# Altium footprint library FLOOD_DATN.PcbLib: 12 footprints
Each footprint in its own frame and in the unit in brackets; x right, y up, seen from the top. Pads: shape width x height; smd on the part's side, far side on the other; paste and mask are expansions set on the pad; w line width, h text height; cw(c..) or ccw(c..) is an arc to the next point about the centre after c.
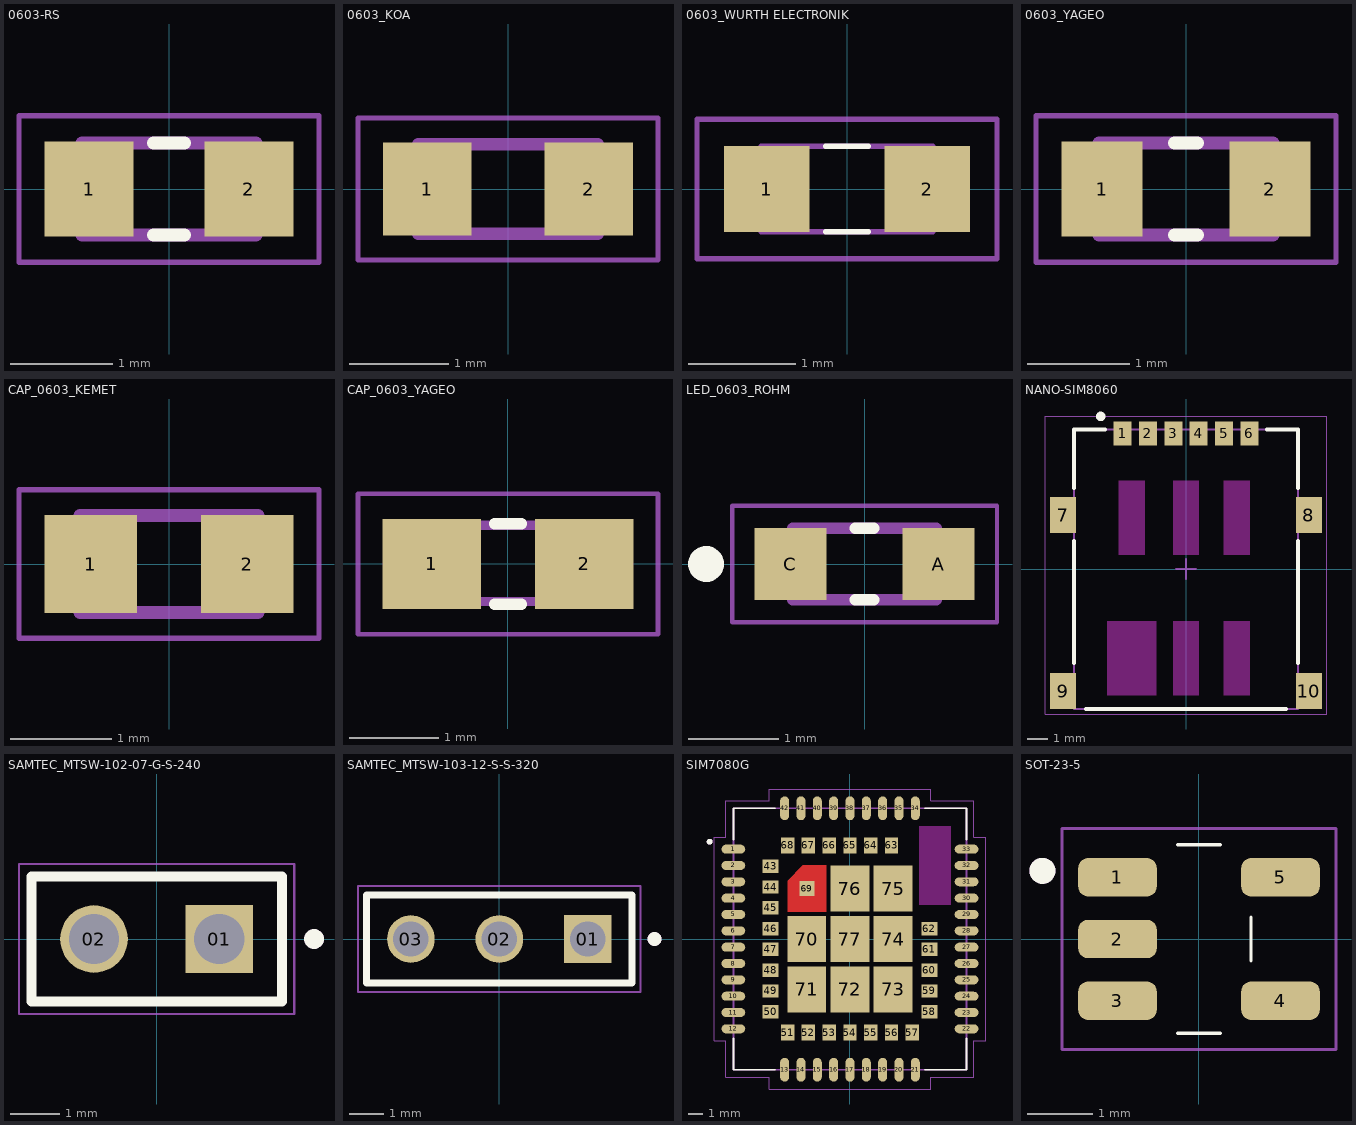
[diagram p0: the footprints below, top view; thin cyan lines are the x and y axes]

## 0603-RS [mm]
pads (2):
  rect 0.87x0.93 smd: 1(-0.78,0) 2(0.78,0)
Top Overlay:
  lines w0.127: -0.15,-0.45 0.15,-0.45 ; -0.15,0.45 0.15,0.45
Mechanical 1:
  lines w0.127: -0.85,-0.45 -0.85,0.45 0.85,0.45 0.85,-0.45 -0.85,-0.45
Mechanical 13:
  lines w0.127: -0.85,-0.45 -0.85,0.45 0.85,0.45 0.85,-0.45 -0.85,-0.45
Mechanical 15:
  lines w0.05: -1.465,-0.715 -1.465,0.715 1.465,0.715 1.465,-0.715 -1.465,-0.715
Mechanical 29:
  lines w0.05: -1.465,-0.715 -1.465,0.715 1.465,0.715 1.465,-0.715 -1.465,-0.715
  text "'.Designator'" at -1.016,-0.127 h0.4
3D body "SFR03EZPF4701.step": height 0.55, standoff 0, extent -0.8,-0.4 0.8,0.4

## 0603_KOA [mm]
pads (2):
  rect 0.89x0.93 smd: 1(-0.814,0) 2(0.814,0)
Mechanical 1:
  lines w0.127: -0.9,-0.45 -0.9,0.45 0.9,0.45 0.9,-0.45 -0.9,-0.45
Mechanical 13:
  lines w0.127: -0.9,-0.45 -0.9,0.45 0.9,0.45 0.9,-0.45 -0.9,-0.45
Mechanical 15:
  lines w0.05: -1.508,-0.715 -1.508,0.715 1.508,0.715 1.508,-0.715 -1.508,-0.715
Mechanical 29:
  lines w0.05: -1.508,-0.715 -1.508,0.715 1.508,0.715 1.508,-0.715 -1.508,-0.715
  text "'.Designator'" at -0.781,-0.117 h0.3
3D body "step_temp.STEP": height 0.55, standoff 0, extent -0.8,-0.4 0.8,0.4

## 0603_WURTH ELECTRONIK [mm]
pads (2):
  rect 0.8x0.8 smd: 1(-0.75,0) 2(0.75,0)
Top Overlay:
  lines w0.05: -0.2,-0.4 0.2,-0.4 ; -0.2,0.4 0.2,0.4
Mechanical 1:
  lines w0.05: -0.8,-0.4 0.8,-0.4 0.8,0.4 -0.8,0.4 -0.8,-0.4
Mechanical 15:
  lines w0.05: -1.4,-0.65 1.4,-0.65 1.4,0.65 -1.4,0.65 -1.4,-0.65
Mechanical 29:
  lines w0.05: -1.4,-0.65 1.4,-0.65 1.4,0.65 -1.4,0.65 -1.4,-0.65
  text "'.Designator'" at -1.143,-0.127 h0.5
3D body "885012206071.STEP": height 0.8, standoff 0, extent -0.8,-0.4 0.8,0.4

## 0603_YAGEO [mm]
pads (2):
  rect 0.79x0.93 smd: 1(-0.82,0) 2(0.82,0)
Top Overlay:
  lines w0.127: -0.11,-0.45 0.11,-0.45 ; -0.11,0.45 0.11,0.45
Mechanical 1:
  lines w0.127: -0.85,-0.45 -0.85,0.45 0.85,0.45 0.85,-0.45 -0.85,-0.45
Mechanical 13:
  lines w0.127: -0.85,-0.45 -0.85,0.45 0.85,0.45 0.85,-0.45 -0.85,-0.45
Mechanical 15:
  lines w0.05: -1.465,-0.715 -1.465,0.715 1.465,0.715 1.465,-0.715 -1.465,-0.715
Mechanical 29:
  lines w0.05: -1.465,-0.715 -1.465,0.715 1.465,0.715 1.465,-0.715 -1.465,-0.715
  text "'.Designator'" at -1.143,-0.381 h0.51
3D body "step_temp.STEP": height 0.55, standoff 0, extent -0.8,-0.4 0.8,0.4

## CAP_0603_KEMET [mm]
pads (2):
  rect 0.92x0.97 smd: 1(-0.775,0) 2(0.775,0)
Mechanical 1:
  lines w0.127: -0.88,-0.48 0.88,-0.48 0.88,0.48 -0.88,0.48 -0.88,-0.48
Mechanical 13:
  lines w0.127: -0.88,-0.48 0.88,-0.48 0.88,0.48 -0.88,0.48 -0.88,-0.48
Mechanical 15:
  lines w0.05: -1.485,-0.735 1.485,-0.735 1.485,0.735 -1.485,0.735 -1.485,-0.735
Mechanical 29:
  lines w0.05: -1.485,-0.735 1.485,-0.735 1.485,0.735 -1.485,0.735 -1.485,-0.735
  text "'.Designator'" at -1.194,-0.201 h0.51
3D body "C0603C103M4REC7411.STEP": height 0.87, standoff 0, extent -0.8,-0.4 0.8,0.4

## CAP_0603_YAGEO [mm]
pads (2):
  rect 1.1x1 smd: 1(-0.85,0) 2(0.85,0)
Top Overlay:
  lines w0.127: -0.15,-0.45 0.15,-0.45 ; -0.15,0.45 0.15,0.45
Mechanical 1:
  region: 0.83,-0.471 0.331,-0.471 0.331,0.48 0.83,0.48
  region: -0.338,-0.47 -0.839,-0.47 -0.839,0.48 -0.338,0.48
  lines w0.102: -0.356,-0.419 0.356,-0.419 ; -0.356,0.432 0.356,0.432
Mechanical 13:
  region: 0.83,-0.471 0.331,-0.471 0.331,0.48 0.83,0.48
  region: -0.338,-0.47 -0.839,-0.47 -0.839,0.48 -0.338,0.48
  lines w0.102: -0.356,-0.419 0.356,-0.419 ; -0.356,0.432 0.356,0.432
Mechanical 15:
  lines w0.051: -1.673,-0.783 -1.673,0.783 1.673,0.783 1.673,-0.783 -1.673,-0.783
Mechanical 29:
  lines w0.051: -1.673,-0.783 -1.673,0.783 1.673,0.783 1.673,-0.783 -1.673,-0.783
  text "'.Designator'" at -1.143,-0.381 h0.51
3D body "CC0603JRX7R7BB104.STEP": height 0.8, standoff 0, extent -0.819,-0.451 0.781,0.449

## LED_0603_ROHM [mm]
pads (2):
  rect 0.8x0.8 smd: A(0.825,0) C(-0.825,0)
Top Overlay:
  circle w0.2: c-1.765,0 r0.1
  lines w0.127: -0.105,-0.4 0.105,-0.4 ; -0.105,0.4 0.105,0.4
Mechanical 1:
  lines w0.127: -0.8,-0.4 -0.8,0.4 0.8,0.4 0.8,-0.4 -0.8,-0.4
Mechanical 13:
  lines w0.127: -0.8,-0.4 -0.8,0.4 0.8,0.4 0.8,-0.4 -0.8,-0.4
Mechanical 15:
  lines w0.05: -1.475,-0.65 -1.475,0.65 1.475,0.65 1.475,-0.65 -1.475,-0.65
Mechanical 29:
  lines w0.05: -1.475,-0.65 -1.475,0.65 1.475,0.65 1.475,-0.65 -1.475,-0.65
  text "'.Designator'" at -0.762,0 h0.3
3D body "step_temp.STEP": height 0.55, standoff 0, extent -0.8,-0.4 0.8,0.4

## NANO-SIM8060 [mm]
pads (10):
  rect 0.9x1.2 smd: 1(-3.175,6.8) 2(-1.905,6.8) 3(-0.635,6.8) 4(0.635,6.8) 5(1.905,6.8) 6(3.175,6.8)
  rect 1.3x1.8 smd: 7(-6.15,2.7) 8(6.15,2.7) 9(-6.15,-6.1) 10(6.15,-6.1)
Top Overlay:
  circle w0.24: c-4.267,7.645 r0.12
  lines w0.2: -5.6,-4.699 -5.6,1.397 ; -5.6,4.064 -5.6,7 -4.064,7 ; -5,-7 5,-7 ; 4.064,7 5.6,7 5.6,4.064 ; 5.6,-4.699 5.6,1.397
Keep-Out Layer:
  region: 3.19,-6.3 1.89,-6.3 1.89,-2.6 3.19,-2.6
  region: 0.65,-6.3 -0.65,-6.3 -0.65,-2.6 0.65,-2.6
  region: -1.49,-6.3 -3.93,-6.3 -3.93,-2.6 -1.49,-2.6
  region: 3.19,0.72 1.89,0.72 1.89,4.42 3.19,4.42
  region: 0.65,0.72 -0.65,0.72 -0.65,4.42 0.65,4.42
  region: -2.06,0.72 -3.36,0.72 -3.36,4.42 -2.06,4.42
  region: 3.19,-6.3 1.89,-6.3 1.89,-2.6 3.19,-2.6
  region: 0.65,-6.3 -0.65,-6.3 -0.65,-2.6 0.65,-2.6
  region: -1.49,-6.3 -3.93,-6.3 -3.93,-2.6 -1.49,-2.6
  region: 3.19,0.72 1.89,0.72 1.89,4.42 3.19,4.42
  region: 0.65,0.72 -0.65,0.72 -0.65,4.42 0.65,4.42
  region: -2.06,0.72 -3.36,0.72 -3.36,4.42 -2.06,4.42
Mechanical 1:
  lines w0.1: -5.6,-7 -5.6,7 5.6,7 5.6,-7 -5.6,-7
Mechanical 13:
  lines w0.1: -5.6,-7 -5.6,7 5.6,7 5.6,-7 -5.6,-7
Mechanical 15:
  lines w0.05: -7.05,-7.25 -7.05,7.65 7.05,7.65 7.05,-7.25 -7.05,-7.25
  lines w0.1: -0.5,0 0.5,0 ; 0,-0.5 0,0.5
Mechanical 29:
  lines w0.05: -7.05,-7.25 -7.05,7.65 7.05,7.65 7.05,-7.25 -7.05,-7.25
  text "'.Designator'" at -3.048,-0.508 h1.52
3D body "SIM8060-6-1-14-00-A.step": height 1.4, standoff -0.03, extent -6.223,-7.05 6.177,7.05

## SAMTEC_MTSW-102-07-G-S-240 [mm]
pads (2):
  rect 1.37x1.37 / inner round 1.37 / far side rect 1.37x1.37 hole 1.02: 01(1.27,0)
  round 1.37 hole 1.02: 02(-1.27,0)
Top Overlay:
  circle w0.2: c3.19,0 r0.1
  lines w0.2: -2.54,-1.27 -2.54,1.27 2.54,1.27 2.54,-1.27 -2.54,-1.27
Mechanical 1:
  lines w0.1: -2.54,-1.27 -2.54,1.27 ; -2.54,-1.27 2.54,-1.27 ; -2.54,-1.27 -2.54,1.27 ; -2.54,1.27 2.54,1.27 ; -2.54,1.27 2.54,1.27 ; 2.54,-1.27 2.54,1.27 ; 2.54,-1.27 2.54,1.27
Mechanical 13:
  circle w0.2: c3.19,0 r0.1
  lines w0.1: -2.54,-1.27 -2.54,1.27 ; -2.54,-1.27 2.54,-1.27 ; -2.54,-1.27 -2.54,1.27 ; -2.54,1.27 2.54,1.27 ; -2.54,1.27 2.54,1.27 ; 2.54,-1.27 2.54,1.27 ; 2.54,-1.27 2.54,1.27
Mechanical 15:
  lines w0.05: -2.79,-1.52 -2.79,1.52 2.79,1.52 2.79,-1.52 -2.79,-1.52
Mechanical 29:
  lines w0.05: -2.79,-1.52 -2.79,1.52 2.79,1.52 2.79,-1.52 -2.79,-1.52
  text "'.Designator'" at -1.821,-0.164 h0.7
3D body "MTSW-102-07-G-S-240.stp": height 8.64, standoff -2.29, extent -2.54,-1.27 2.54,1.27

## SAMTEC_MTSW-103-12-S-S-320 [mm]
pads (3):
  rect 1.37x1.37 / inner round 1.37 / far side rect 1.37x1.37 hole 1.02: 01(2.54,0)
  round 1.37 hole 1.02: 02(0,0) 03(-2.54,0)
Top Overlay:
  circle w0.2: c4.46,0 r0.1
  lines w0.2: -3.81,-1.27 3.81,-1.27 3.81,1.27 -3.81,1.27 -3.81,-1.27
Mechanical 1:
  lines w0.1: -3.81,-1.27 -3.81,1.27 ; -3.81,-1.27 3.81,-1.27 ; -3.81,-1.27 -3.81,1.27 ; -3.81,1.27 3.81,1.27 ; -3.81,1.27 3.81,1.27 ; 3.81,-1.27 3.81,1.27 ; 3.81,-1.27 3.81,1.27
Mechanical 13:
  circle w0.2: c4.46,0 r0.1
  lines w0.1: -3.81,-1.27 -3.81,1.27 ; -3.81,-1.27 3.81,-1.27 ; -3.81,-1.27 -3.81,1.27 ; -3.81,1.27 3.81,1.27 ; -3.81,1.27 3.81,1.27 ; 3.81,-1.27 3.81,1.27 ; 3.81,-1.27 3.81,1.27
Mechanical 15:
  lines w0.05: -4.06,-1.52 4.06,-1.52 4.06,1.52 -4.06,1.52 -4.06,-1.52
Mechanical 29:
  lines w0.05: -4.06,-1.52 4.06,-1.52 4.06,1.52 -4.06,1.52 -4.06,-1.52
  text "'.Designator'" at -2.921,-0.635 h1.3
3D body "MTSW-103-12-S-S-320.stp": height 10.67, standoff -15.49, extent -3.81,-1.27 3.81,1.27

## SIM7080G [mm]
height 2.6
pads (77):
  oval 1.6x0.6 smd paste-2: 1(-7.85,6.05) 2(-7.85,4.95) 3(-7.85,3.85) 4(-7.85,2.75) 5(-7.85,1.65) 6(-7.85,0.55) 7(-7.85,-0.55) 8(-7.85,-1.65) 9(-7.85,-2.75) 10(-7.85,-3.85) 11(-7.85,-4.95) 12(-7.85,-6.05) 22(7.85,-6.05) 23(7.85,-4.95) 24(7.85,-3.85) 25(7.85,-2.75) 26(7.85,-1.65) 27(7.85,-0.55) 28(7.85,0.55) 29(7.85,1.65) 30(7.85,2.75) 31(7.85,3.85) 32(7.85,4.95) 33(7.85,6.05)
  oval 0.6x1.6 smd paste-2: 13(-4.4,-8.8) 14(-3.3,-8.8) 15(-2.2,-8.8) 16(-1.1,-8.8) 17(0,-8.8) 18(1.1,-8.8) 19(2.2,-8.8) 20(3.3,-8.8) 21(4.4,-8.8) 34(4.4,8.8) 35(3.3,8.8) 36(2.2,8.8) 37(1.1,8.8) 38(0,8.8) 39(-1.1,8.8) 40(-2.2,8.8) 41(-3.3,8.8) 42(-4.4,8.8)
  rect 1.1x0.9 smd paste-2: 43(-5.35,4.9) 44(-5.35,3.5) 45(-5.35,2.1) 46(-5.35,0.7) 47(-5.35,-0.7) 48(-5.35,-2.1) 49(-5.35,-3.5) 50(-5.35,-4.9) 58(5.35,-4.9) 59(5.35,-3.5) 60(5.35,-2.1) 61(5.35,-0.7) 62(5.35,0.7)
  rect 0.9x1.1 smd paste-2: 51(-4.2,-6.3) 52(-2.8,-6.3) 53(-1.4,-6.3) 54(0,-6.3) 55(1.4,-6.3) 56(2.8,-6.3) 57(4.2,-6.3) 63(2.8,6.3) 64(1.4,6.3) 65(0,6.3) 66(-1.4,6.3) 67(-2.8,6.3) 68(-4.2,6.3)
  rect 1x1 smd paste-1 mask+0: 69(-2.9,3.4)
  rect 2.6x3.1 smd paste-3: 70(-2.9,0) 71(-2.9,-3.4) 72(0,-3.4) 73(2.9,-3.4) 74(2.9,0) 75(2.9,3.4) 76(0,3.4) 77(0,0)
Top Layer:
  region: -1.6,1.85 -4.2,1.85 -4.2,3.92 -3.17,4.95 -1.6,4.95
Top Overlay:
  circle w0.2: c-9.45,6.55 r0.1
  lines w0.127: -7.85,-6.7 -7.85,-8.8 -5.05,-8.8 ; -7.85,6.7 -7.85,8.8 -5.05,8.8 ; 5.05,-8.8 7.85,-8.8 7.85,-6.7 ; 5.05,8.8 7.85,8.8 7.85,6.7
Top Paste:
  drawing of 184 lines, arcs and shapes, not listed
Top Solder:
  region: -1.5,1.75 -4.3,1.75 -4.3,4.02 -3.27,5.05 -1.5,5.05
Keep-Out Layer:
  region: 6.8,2.3 4.65,2.3 4.65,7.6 6.8,7.6
Mechanical 1:
  lines w0.127: -7.85,-8.8 -7.85,8.8 7.85,8.8 7.85,-8.8 -7.85,-8.8
Mechanical 13:
  circle w0.2: c-9.45,6.55 r0.1
  lines w0.127: -7.85,-8.8 -7.85,8.8 7.85,8.8 7.85,-8.8 -7.85,-8.8
Mechanical 15:
  lines w0.05: -9.15,-6.85 -9.15,6.85 -8.35,6.85 -8.35,9.3 -5.45,9.3 -5.45,10.1 5.45,10.1 5.45,9.3 8.35,9.3 8.35,6.85 9.15,6.85 9.15,-6.85 8.35,-6.85 8.35,-9.3 5.45,-9.3 5.45,-10.1 -5.45,-10.1 -5.45,-9.3 -8.35,-9.3 -8.35,-6.85 -9.15,-6.85
Mechanical 29:
  text "'.Designator'" at -5.969,-1.27 h2.54
3D body "step_temp.STEP": height 2.6, standoff 0, extent -7.85,-8.8 7.85,8.8

## SOT-23-5 [mm]
pads (5):
  rrect50% 1.21x0.59 smd: 1(-1.255,0.95) 2(-1.255,0) 3(-1.255,-0.95) 4(1.255,-0.95) 5(1.255,0.95)
Top Overlay:
  circle w0.2: c-2.41,1.05 r0.1
  lines w0.05: -0.33,-1.45 0.33,-1.45 ; -0.33,1.45 0.33,1.45 ; 0.8,-0.335 0.8,0.335
Mechanical 1:
  lines w0.05: -2.11,-1.7 -2.11,1.7 2.11,1.7 2.11,-1.7 -2.11,-1.7
Mechanical 13:
  circle w0.2: c-2.41,1.05 r0.1
Mechanical 15:
  lines w0.05: -2.11,-1.7 -2.11,1.7 2.11,1.7 2.11,-1.7 -2.11,-1.7
Mechanical 29:
  lines w0.05: -2.11,-1.7 -2.11,1.7 2.11,1.7 2.11,-1.7 -2.11,-1.7
  text "'.Designator'" at -1.772,-0.152 h0.7
3D body "step_temp.STEP": height 1.45, standoff 0, extent -1.4,-1.45 1.4,1.45